# Altium footprint library SMA-KE.PcbLib: 1 footprints
Each footprint in its own frame and in the unit in brackets; x right, y up, seen from the top. Pads: shape width x height; smd on the part's side, far side on the other; paste and mask are expansions set on the pad; w line width, h text height; cw(c..) or ccw(c..) is an arc to the next point about the centre after c.
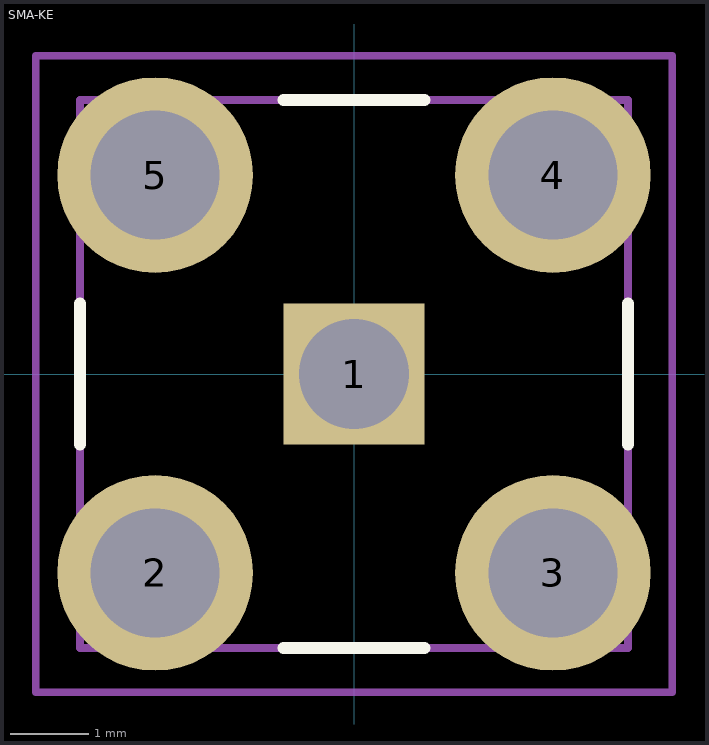
[diagram p0: the footprint, top view; thin cyan lines are the x and y axes]

## SMA-KE [mm] "Body6.6X6.6mm Pitch 5.08mm High 9.5mm"
height 9.5
pads (5):
  rect 1.8x1.8 hole 1.4: 1(0,0)
  round 2.5 hole 1.65: 2(-2.54,-2.54) 3(2.54,-2.54) 4(2.54,2.54) 5(-2.54,2.54)
Top Overlay:
  lines w0.152: -3.5,-0.9 -3.5,0.9 ; -0.9,-3.5 0.9,-3.5 ; -0.9,3.5 0.9,3.5 ; 3.5,-0.9 3.5,0.9
Mechanical 13:
  lines w0.1: -3.5,-3.5 3.5,-3.5 3.5,3.5 -3.5,3.5 -3.5,-3.5
Mechanical 15:
  lines w0.1: -4.064,-4.064 4.064,-4.064 4.064,4.064 -4.064,4.064 -4.064,-4.064
3D body: height 9.53, standoff -3.94, extent -3.5,-3.5 3.5,3.5